# Altium schematic symbol library RES 1k 1_8W.Schlib: 1 symbol
Pins are listed as number, name and electrical type; pins without a type are passive.

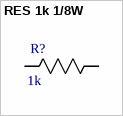
[diagram p0: symbol RES 1k 1/8W]

## RES 1k 1/8W
designator R?, comment 1k
RES SMD 1K OHM 5% 1/8W 0805; Power (Watts): 0.125W; Package: 0805; Value: 1k; Tolerance: 5%
footprint 0805
footprint 0603
pins: 1 R1, 2 R2